# Altium integrated library GSB316441CEU.IntLib: 1 symbol
Pins are listed as number, name and electrical type; pins without a type are passive.

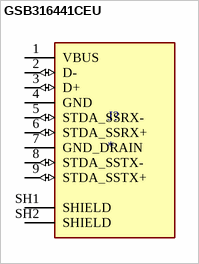
[diagram p0: symbol GSB316441CEU]

## GSB316441CEU
designator J?
USB 3.2, Type A, Plug, Right Angle SMT, 9 Pins, Offset 0.95mm, 3.2mm Height, Shell Dip with Nickel Plating, 30&mu;in Gold, Blue High Temperature Housing, Tape and Reel Packaging; MF: Amphenol; MP: GSB316441CEU; SnapEDA_Link: https://www.snapeda.com/parts/GSB316441CEU/Amphenol/view-part/?ref=snap; Package: None; Value: *; Check_prices: https://www.snapeda.com/parts/GSB316441CEU/Amphenol/view-part/?ref=eda
footprint AMPHENOL_GSB316441CEU
pins: 1 VBUS (power), 2 D- (io), 3 D+ (io), 4 GND (power), 5 STDA_SSRX- (io), 6 STDA_SSRX+ (io), 7 GND_DRAIN (power), 8 STDA_SSTX- (io), 9 STDA_SSTX+ (io), SH1 SHIELD, SH2 SHIELD